# Altium integrated library Capacitor - Aluminium TH.IntLib: 4591 symbols (part 5 of 68)
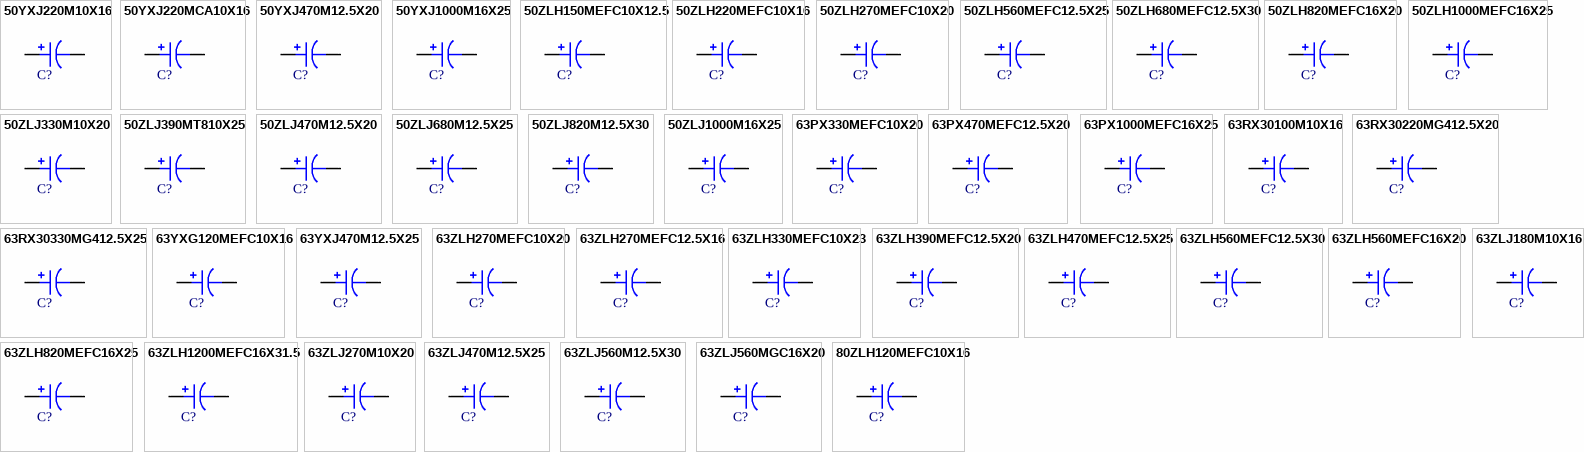
[diagram p118: symbols 50YXJ220M10X16 to 80ZLH120MEFC10X16]

## 63ZLH560MEFC16X20
designator C?, comment 560uF  (value not drawn)
CAP ALUM 560UF 20% 63V RADIAL; Part Number: 63ZLH560MEFC16X20; Manufacturer: Rubycon; TemperatureRange: -40C ~ 105C; Type: Polar; Ripple Current: 1.155A @ 120Hz; Impedance: 43 mOhm; Value: 560uF; PartId: 26466; Supplier 1: Digi-Key; Supplier Part Number 1: 1189-3035-ND; ComponentLink1Description: Datasheet; ComponentLink1URL: http://www.rubycon.co.jp/en/catalog/e_pdfs/aluminum/e_zlh.pdf; ComponentLink2Description: Digi-Key Listing; ComponentLink2URL: https://www.digikey.com/product-detail/en/rubycon/63ZLH560MEFC16X20/1189-3035-ND/3564404; Tolerance: 20%; Voltage: 63V; Price: 1.55; Device Package: Radial, Can, 16mm
footprint CAP AL TH D16 L7.5 H22
pins: 1, 2

## 63ZLH820MEFC16X25
designator C?, comment 820uF  (value not drawn)
CAP ALUM 820UF 20% 63V RADIAL; Part Number: 63ZLH820MEFC16X25; Manufacturer: Rubycon; TemperatureRange: -40C ~ 105C; Type: Polar; Ripple Current: 1.638A @ 120Hz; Impedance: 32 mOhm; Value: 820uF; PartId: 26932; Supplier 1: Digi-Key; Supplier Part Number 1: 1189-3037-ND; ComponentLink1Description: Datasheet; ComponentLink1URL: http://www.rubycon.co.jp/en/catalog/e_pdfs/aluminum/e_zlh.pdf; ComponentLink2Description: Digi-Key Listing; ComponentLink2URL: https://www.digikey.com/product-detail/en/rubycon/63ZLH820MEFC16X25/1189-3037-ND/3564487; Tolerance: 20%; Voltage: 63V; Price: 1.82; Device Package: Radial, Can, 16mm
footprint CAP AL TH D16 L7.5 H27
pins: 1, 2

## 63ZLH1200MEFC16X31.5
designator C?, comment 1200uF  (value not drawn)
CAP ALUM 1200UF 20% 63V RADIAL; Part Number: 63ZLH1200MEFC16X31.5; Manufacturer: Rubycon; TemperatureRange: -40C ~ 105C; Type: Polar; Ripple Current: 1.794A; Impedance: 24 mOhm; Value: 1200uF; PartId: 27170; Supplier 1: Digi-Key; Supplier Part Number 1: 1189-1503-ND; ComponentLink1Description: Datasheet; ComponentLink1URL: http://www.rubycon.co.jp/en/catalog/e_pdfs/aluminum/e_zlh.pdf; ComponentLink2Description: Digi-Key Listing; ComponentLink2URL: https://www.digikey.com/product-detail/en/rubycon/63ZLH1200MEFC16X31.5/1189-1503-ND/3134459; Tolerance: 20%; Voltage: 63V; Price: 1.9; Device Package: Radial, Can, 16mm
footprint CAP AL TH D16 L7.5 H33.5
pins: 1, 2

## 63ZLJ180M10X16
designator C?, comment 180uF  (value not drawn)
CAP ALUM 180UF 20% 63V RADIAL; Part Number: 63ZLJ180M10X16; Manufacturer: Rubycon; TemperatureRange: -40C ~ 105C; Type: Polar; Ripple Current: 600mA @ 120Hz; Impedance: 76 mOhm; Value: 180uF; PartId: 25415; Supplier 1: Digi-Key; Supplier Part Number 1: 1189-2360-ND; ComponentLink1Description: Datasheet; ComponentLink1URL: http://www.rubycon.co.jp/en/catalog/e_pdfs/aluminum/e_zlj.pdf; ComponentLink2Description: Digi-Key Listing; ComponentLink2URL: https://www.digikey.com/product-detail/en/rubycon/63ZLJ180M10X16/1189-2360-ND/3563728; Tolerance: 20%; Voltage: 63V; Price: 0.9; Device Package: Radial, Can, 10mm
footprint CAP AL TH D10 L5 H17.5
pins: 1, 2

## 63ZLJ270M10X20
designator C?, comment 270uF  (value not drawn)
CAP ALUM 270UF 20% 63V RADIAL; Part Number: 63ZLJ270M10X20; Manufacturer: Rubycon; TemperatureRange: -40C ~ 105C; Type: Polar; Ripple Current: 785mA @ 120Hz; Impedance: 56 mOhm; Value: 270uF; PartId: 25935; Supplier 1: Digi-Key; Supplier Part Number 1: 1189-1510-ND; ComponentLink1Description: Datasheet; ComponentLink1URL: http://www.rubycon.co.jp/en/catalog/e_pdfs/aluminum/e_zlj.pdf; ComponentLink2Description: Digi-Key Listing; ComponentLink2URL: https://www.digikey.com/product-detail/en/rubycon/63ZLJ270M10X20/1189-1510-ND/3134466; Tolerance: 20%; Voltage: 63V; Price: 0.74; Device Package: Radial, Can, 10mm
footprint CAP AL TH D10 L5 H22
pins: 1, 2

## 63ZLJ470M12.5X25
designator C?, comment 470uF  (value not drawn)
CAP ALUM 470UF 20% 63V RADIAL; Part Number: 63ZLJ470M12.5X25; Manufacturer: Rubycon; TemperatureRange: -40C ~ 105C; Type: Polar; Ripple Current: 1.353A @ 120Hz; Impedance: 31 mOhm; Value: 470uF; PartId: 24113; Supplier 1: Digi-Key; Supplier Part Number 1: 1189-2362-ND; ComponentLink1Description: Datasheet; ComponentLink1URL: http://www.rubycon.co.jp/en/catalog/e_pdfs/aluminum/e_zlj.pdf; ComponentLink2Description: Digi-Key Listing; ComponentLink2URL: https://www.digikey.com/product-detail/en/rubycon/63ZLJ470M12.5X25/1189-2362-ND/3564153; Tolerance: 20%; Voltage: 63V; Price: 1.38; Device Package: Radial, Can, 12.5mm
footprint CAP AL TH D12.5 L5 H27
pins: 1, 2

## 63ZLJ560M12.5X30
designator C?, comment 560uF  (value not drawn)
CAP ALUM 560UF 20% 63V RADIAL; Part Number: 63ZLJ560M12.5X30; Manufacturer: Rubycon; TemperatureRange: -40C ~ 105C; Type: Polar; Ripple Current: 1.353A @ 120Hz; Impedance: 28 mOhm; Value: 560uF; PartId: 24375; Supplier 1: Digi-Key; Supplier Part Number 1: 1189-2363-ND; ComponentLink1Description: Datasheet; ComponentLink1URL: http://www.rubycon.co.jp/en/catalog/e_pdfs/aluminum/e_zlj.pdf; ComponentLink2Description: Digi-Key Listing; ComponentLink2URL: https://www.digikey.com/product-detail/en/rubycon/63ZLJ560M12.5X30/1189-2363-ND/3564208; Tolerance: 20%; Voltage: 63V; Price: 1.65; Device Package: Radial, Can, 12.5mm
footprint CAP AL TH D12.5 L5 H35.5
pins: 1, 2

## 63ZLJ560MGC16X20
designator C?, comment 560uF  (value not drawn)
CAP ALUM 560UF 20% 63V RADIAL; Part Number: 63ZLJ560MGC16X20; Manufacturer: Rubycon; TemperatureRange: -40C ~ 105C; Type: Polar; Ripple Current: 1.309A @ 120Hz; Impedance: 32 mOhm; Value: 560uF; PartId: 26382; Supplier 1: Digi-Key; Supplier Part Number 1: 1189-1679-3-ND; ComponentLink1Description: Datasheet; ComponentLink1URL: http://www.rubycon.co.jp/en/catalog/e_pdfs/aluminum/e_zlj.pdf; ComponentLink2Description: Digi-Key Listing; ComponentLink2URL: https://www.digikey.com/product-detail/en/rubycon/63ZLJ560MGC16X20/1189-1679-3-ND/3134958; Tolerance: 20%; Voltage: 63V; Price: 0.771; Device Package: Radial, Can, 16mm
footprint CAP AL TH D16 L7.5 H22
pins: 1, 2

## 80ZLH120MEFC10X16
designator C?, comment 120uF  (value not drawn)
CAP ALUM 120UF 20% 80V RADIAL; Part Number: 80ZLH120MEFC10X16; Manufacturer: Rubycon; TemperatureRange: -40C ~ 105C; Type: Polar; Ripple Current: 390mA @ 120Hz; Impedance: 170 mOhm; Value: 120uF; PartId: 25325; Supplier 1: Digi-Key; Supplier Part Number 1: 1189-3043-ND; ComponentLink1Description: Datasheet; ComponentLink1URL: http://www.rubycon.co.jp/en/catalog/e_pdfs/aluminum/e_zlh.pdf; ComponentLink2Description: Digi-Key Listing; ComponentLink2URL: https://www.digikey.com/product-detail/en/rubycon/80ZLH120MEFC10X16/1189-3043-ND/3563726; Tolerance: 20%; Voltage: 80V; Price: 0.66; Device Package: Radial, Can, 10mm
footprint CAP AL TH D10 L5 H17.5
pins: 1, 2

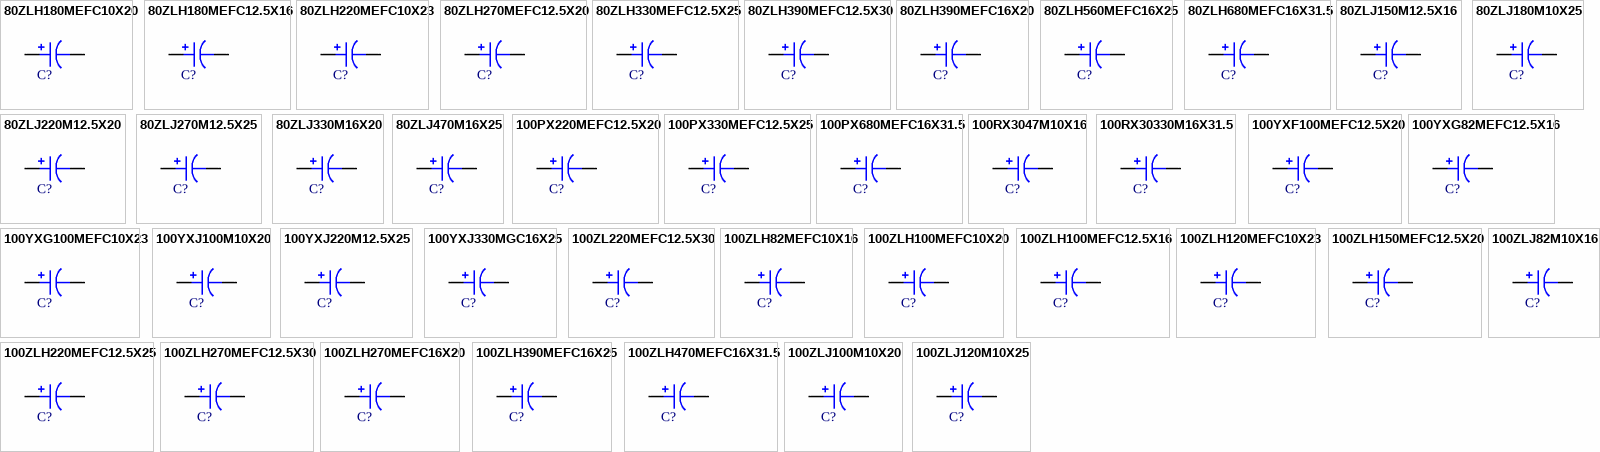
[diagram p7: symbols 80ZLH180MEFC10X20 to 100ZLJ120M10X25]

## 80ZLH180MEFC10X20
designator C?, comment 180uF  (value not drawn)
CAP ALUM 180UF 20% 80V RADIAL; Part Number: 80ZLH180MEFC10X20; Manufacturer: Rubycon; TemperatureRange: -40C ~ 105C; Type: Polar; Ripple Current: 520mA @ 120Hz; Impedance: 120 mOhm; Value: 180uF; PartId: 25959; Supplier 1: Digi-Key; Supplier Part Number 1: 1189-3046-ND; ComponentLink1Description: Datasheet; ComponentLink1URL: http://www.rubycon.co.jp/en/catalog/e_pdfs/aluminum/e_zlh.pdf; ComponentLink2Description: Digi-Key Listing; ComponentLink2URL: https://www.digikey.com/product-detail/en/rubycon/80ZLH180MEFC10X20/1189-3046-ND/3563821; Tolerance: 20%; Voltage: 80V; Price: 0.81; Device Package: Radial, Can, 10mm
footprint CAP AL TH D10 L5 H22
pins: 1, 2

## 80ZLH180MEFC12.5X16
designator C?, comment 180uF  (value not drawn)
CAP ALUM 180UF 20% 80V RADIAL; Part Number: 80ZLH180MEFC12.5X16; Manufacturer: Rubycon; TemperatureRange: -40C ~ 105C; Type: Polar; Ripple Current: 487.5mA @ 120Hz; Impedance: 130 mOhm; Value: 180uF; PartId: 22818; Supplier 1: Digi-Key; Supplier Part Number 1: 1189-3047-ND; ComponentLink1Description: Datasheet; ComponentLink1URL: http://www.rubycon.co.jp/en/catalog/e_pdfs/aluminum/e_zlh.pdf; ComponentLink2Description: Digi-Key Listing; ComponentLink2URL: https://www.digikey.com/product-detail/en/rubycon/80ZLH180MEFC12.5X16/1189-3047-ND/3563975; Tolerance: 20%; Voltage: 80V; Price: 0; Device Package: Radial, Can, 12.5mm
footprint CAP AL TH D12.5 L5 H17.5
pins: 1, 2

## 80ZLH220MEFC10X23
designator C?, comment 220uF  (value not drawn)
CAP ALUM 220UF 20% 80V RADIAL; Part Number: 80ZLH220MEFC10X23; Manufacturer: Rubycon; TemperatureRange: -40C ~ 105C; Type: Polar; Ripple Current: 585mA @ 120Hz; Impedance: 110 mOhm; Value: 220uF; PartId: 26157; Supplier 1: Digi-Key; Supplier Part Number 1: 1189-3048-ND; ComponentLink1Description: Datasheet; ComponentLink1URL: http://www.rubycon.co.jp/en/catalog/e_pdfs/aluminum/e_zlh.pdf; ComponentLink2Description: Digi-Key Listing; ComponentLink2URL: https://www.digikey.com/product-detail/en/rubycon/80ZLH220MEFC10X23/1189-3048-ND/3563865; Tolerance: 20%; Voltage: 80V; Price: 0.86; Device Package: Radial, Can, 10mm
footprint CAP AL TH D10 L5 H30
pins: 1, 2

## 80ZLH270MEFC12.5X20
designator C?, comment 270uF  (value not drawn)
CAP ALUM 270UF 20% 80V RADIAL; Part Number: 80ZLH270MEFC12.5X20; Manufacturer: Rubycon; TemperatureRange: -40C ~ 105C; Type: Polar; Ripple Current: 715mA @ 120Hz; Impedance: 85 mOhm; Value: 270uF; PartId: 23435; Supplier 1: Digi-Key; Supplier Part Number 1: 1189-3049-ND; ComponentLink1Description: Datasheet; ComponentLink1URL: http://www.rubycon.co.jp/en/catalog/e_pdfs/aluminum/e_zlh.pdf; ComponentLink2Description: Digi-Key Listing; ComponentLink2URL: https://www.digikey.com/product-detail/en/rubycon/80ZLH270MEFC12.5X20/1189-3049-ND/3564063; Tolerance: 20%; Voltage: 80V; Price: 1.01; Device Package: Radial, Can, 12.5mm
footprint CAP AL TH D12.5 L5 H22
pins: 1, 2

## 80ZLH330MEFC12.5X25
designator C?, comment 330uF  (value not drawn)
CAP ALUM 330UF 20% 80V RADIAL; Part Number: 80ZLH330MEFC12.5X25; Manufacturer: Rubycon; TemperatureRange: -40C ~ 105C; Type: Polar; Ripple Current: 891mA @ 120Hz; Impedance: 60 mOhm; Value: 330uF; PartId: 24065; Supplier 1: Digi-Key; Supplier Part Number 1: 1189-3050-ND; ComponentLink1Description: Datasheet; ComponentLink1URL: http://www.rubycon.co.jp/en/catalog/e_pdfs/aluminum/e_zlh.pdf; ComponentLink2Description: Digi-Key Listing; ComponentLink2URL: https://www.digikey.com/product-detail/en/rubycon/80ZLH330MEFC12.5X25/1189-3050-ND/3564148; Tolerance: 20%; Voltage: 80V; Price: 1.19; Device Package: Radial, Can, 12.5mm
footprint CAP AL TH D12.5 L5 H27
pins: 1, 2

## 80ZLH390MEFC12.5X30
designator C?, comment 390uF  (value not drawn)
CAP ALUM 390UF 20% 80V RADIAL; Part Number: 80ZLH390MEFC12.5X30; Manufacturer: Rubycon; TemperatureRange: -40C ~ 105C; Type: Polar; Ripple Current: 1.0725A @ 120Hz; Impedance: 51 mOhm; Value: 390uF; PartId: 24354; Supplier 1: Digi-Key; Supplier Part Number 1: 1189-3052-ND; ComponentLink1Description: Datasheet; ComponentLink1URL: http://www.rubycon.co.jp/en/catalog/e_pdfs/aluminum/e_zlh.pdf; ComponentLink2Description: Digi-Key Listing; ComponentLink2URL: https://www.digikey.com/product-detail/en/rubycon/80ZLH390MEFC12.5X30/1189-3052-ND/3564203; Tolerance: 20%; Voltage: 80V; Price: 1.43; Device Package: Radial, Can, 12.5mm
footprint CAP AL TH D12.5 L5 H35.5
pins: 1, 2

## 80ZLH390MEFC16X20
designator C?, comment 390uF  (value not drawn)
CAP ALUM 390UF 20% 80V RADIAL; Part Number: 80ZLH390MEFC16X20; Manufacturer: Rubycon; TemperatureRange: -40C ~ 105C; Type: Polar; Ripple Current: 962.5mA @ 120Hz; Impedance: 58 mOhm; Value: 390uF; PartId: 26465; Supplier 1: Digi-Key; Supplier Part Number 1: 1189-3053-ND; ComponentLink1Description: Datasheet; ComponentLink1URL: http://www.rubycon.co.jp/en/catalog/e_pdfs/aluminum/e_zlh.pdf; ComponentLink2Description: Digi-Key Listing; ComponentLink2URL: https://www.digikey.com/product-detail/en/rubycon/80ZLH390MEFC16X20/1189-3053-ND/3564406; Tolerance: 20%; Voltage: 80V; Price: 1.55; Device Package: Radial, Can, 16mm
footprint CAP AL TH D16 L7.5 H22
pins: 1, 2

## 80ZLH560MEFC16X25
designator C?, comment 560uF  (value not drawn)
CAP ALUM 560UF 20% 80V RADIAL; Part Number: 80ZLH560MEFC16X25; Manufacturer: Rubycon; TemperatureRange: -40C ~ 105C; Type: Polar; Ripple Current: 1.2155A @ 120Hz; Impedance: 44 mOhm; Value: 560uF; PartId: 26933; Supplier 1: Digi-Key; Supplier Part Number 1: 1189-3056-ND; ComponentLink1Description: Datasheet; ComponentLink1URL: http://www.rubycon.co.jp/en/catalog/e_pdfs/aluminum/e_zlh.pdf; ComponentLink2Description: Digi-Key Listing; ComponentLink2URL: https://www.digikey.com/product-detail/en/rubycon/80ZLH560MEFC16X25/1189-3056-ND/3564490; Tolerance: 20%; Voltage: 80V; Price: 1.82; Device Package: Radial, Can, 16mm
footprint CAP AL TH D16 L7.5 H27
pins: 1, 2

## 80ZLH680MEFC16X31.5
designator C?, comment 680uF  (value not drawn)
CAP ALUM 680UF 20% 80V RADIAL; Part Number: 80ZLH680MEFC16X31.5; Manufacturer: Rubycon; TemperatureRange: -40C ~ 105C; Type: Polar; Ripple Current: 1.32A @ 120Hz; Impedance: 33 mOhm; Value: 680uF; PartId: 27208; Supplier 1: Digi-Key; Supplier Part Number 1: 1189-3059-ND; ComponentLink1Description: Datasheet; ComponentLink1URL: http://www.rubycon.co.jp/en/catalog/e_pdfs/aluminum/e_zlh.pdf; ComponentLink2Description: Digi-Key Listing; ComponentLink2URL: https://www.digikey.com/product-detail/en/rubycon/80ZLH680MEFC16X31.5/1189-3059-ND/3564547; Tolerance: 20%; Voltage: 80V; Price: 2.16; Device Package: Radial, Can, 16mm
footprint CAP AL TH D16 L7.5 H33.5
pins: 1, 2

## 80ZLJ150M12.5X16
designator C?, comment 150uF  (value not drawn)
CAP ALUM 150UF 20% 80V RADIAL; Part Number: 80ZLJ150M12.5X16; Manufacturer: Rubycon; TemperatureRange: -40C ~ 105C; Type: Polar; Ripple Current: 715mA @ 120Hz; Impedance: 110 mOhm; Value: 150uF; PartId: 22830; Supplier 1: Digi-Key; Supplier Part Number 1: 1189-2365-ND; ComponentLink1Description: Datasheet; ComponentLink1URL: http://www.rubycon.co.jp/en/catalog/e_pdfs/aluminum/e_zlj.pdf; ComponentLink2Description: Digi-Key Listing; ComponentLink2URL: https://www.digikey.com/product-detail/en/rubycon/80ZLJ150M12.5X16/1189-2365-ND/3563978; Tolerance: 20%; Voltage: 80V; Price: 0; Device Package: Radial, Can, 12.5mm
footprint CAP AL TH D12.5 L5 H17.5
pins: 1, 2

## 80ZLJ180M10X25
designator C?, comment 180uF  (value not drawn)
CAP ALUM 180UF 20% 80V RADIAL; Part Number: 80ZLJ180M10X25; Manufacturer: Rubycon; TemperatureRange: -40C ~ 105C; Type: Polar; Ripple Current: 810mA @ 120Hz; Impedance: 69 mOhm; Value: 180uF; PartId: 26186; Supplier 1: Digi-Key; Supplier Part Number 1: 1189-2366-ND; ComponentLink1Description: Datasheet; ComponentLink1URL: http://www.rubycon.co.jp/en/catalog/e_pdfs/aluminum/e_zlj.pdf; ComponentLink2Description: Digi-Key Listing; ComponentLink2URL: https://www.digikey.com/product-detail/en/rubycon/80ZLJ180M10X25/1189-2366-ND/3563878; Tolerance: 20%; Voltage: 80V; Price: 1.02; Device Package: Radial, Can, 10mm
footprint CAP AL TH D10 L5 H30
pins: 1, 2

## 80ZLJ220M12.5X20
designator C?, comment 220uF  (value not drawn)
CAP ALUM 220UF 20% 80V RADIAL; Part Number: 80ZLJ220M12.5X20; Manufacturer: Rubycon; TemperatureRange: -40C ~ 105C; Type: Polar; Ripple Current: 875mA @ 120Hz; Impedance: 62 mOhm; Value: 220uF; PartId: 23487; Supplier 1: Digi-Key; Supplier Part Number 1: 1189-2367-ND; ComponentLink1Description: Datasheet; ComponentLink1URL: http://www.rubycon.co.jp/en/catalog/e_pdfs/aluminum/e_zlj.pdf; ComponentLink2Description: Digi-Key Listing; ComponentLink2URL: https://www.digikey.com/product-detail/en/rubycon/80ZLJ220M12.5X20/1189-2367-ND/3564071; Tolerance: 20%; Voltage: 80V; Price: 1.17; Device Package: Radial, Can, 12.5mm
footprint CAP AL TH D12.5 L5 H22
pins: 1, 2

## 80ZLJ270M12.5X25
designator C?, comment 270uF  (value not drawn)
CAP ALUM 270UF 20% 80V RADIAL; Part Number: 80ZLJ270M12.5X25; Manufacturer: Rubycon; TemperatureRange: -40C ~ 105C; Type: Polar; Ripple Current: 1.105A @ 120Hz; Impedance: 47 mOhm; Value: 270uF; PartId: 24114; Supplier 1: Digi-Key; Supplier Part Number 1: 1189-2368-ND; ComponentLink1Description: Datasheet; ComponentLink1URL: http://www.rubycon.co.jp/en/catalog/e_pdfs/aluminum/e_zlj.pdf; ComponentLink2Description: Digi-Key Listing; ComponentLink2URL: https://www.digikey.com/product-detail/en/rubycon/80ZLJ270M12.5X25/1189-2368-ND/3564155; Tolerance: 20%; Voltage: 80V; Price: 1.39; Device Package: Radial, Can, 12.5mm
footprint CAP AL TH D12.5 L5 H27
pins: 1, 2

## 80ZLJ330M16X20
designator C?, comment 330uF  (value not drawn)
CAP ALUM 330UF 20% 80V RADIAL; Part Number: 80ZLJ330M16X20; Manufacturer: Rubycon; TemperatureRange: -40C ~ 105C; Type: Polar; Ripple Current: 1.072A @ 120Hz; Impedance: 48 mOhm; Value: 330uF; PartId: 26479; Supplier 1: Digi-Key; Supplier Part Number 1: 1189-2370-ND; ComponentLink1Description: Datasheet; ComponentLink1URL: http://www.rubycon.co.jp/en/catalog/e_pdfs/aluminum/e_zlj.pdf; ComponentLink2Description: Digi-Key Listing; ComponentLink2URL: https://www.digikey.com/product-detail/en/rubycon/80ZLJ330M16X20/1189-2370-ND/3564415; Tolerance: 20%; Voltage: 80V; Price: 1.79; Device Package: Radial, Can, 16mm
footprint CAP AL TH D16 L7.5 H22
pins: 1, 2

## 80ZLJ470M16X25
designator C?, comment 470uF  (value not drawn)
CAP ALUM 470UF 20% 80V RADIAL; Part Number: 80ZLJ470M16X25; Manufacturer: Rubycon; TemperatureRange: -40C ~ 105C; Type: Polar; Ripple Current: 1.336A @ 120Hz; Impedance: 38 mOhm; Value: 470uF; PartId: 26942; Supplier 1: Digi-Key; Supplier Part Number 1: 1189-2371-ND; ComponentLink1Description: Datasheet; ComponentLink1URL: http://www.rubycon.co.jp/en/catalog/e_pdfs/aluminum/e_zlj.pdf; ComponentLink2Description: Digi-Key Listing; ComponentLink2URL: https://www.digikey.com/product-detail/en/rubycon/80ZLJ470M16X25/1189-2371-ND/3564497; Tolerance: 20%; Voltage: 80V; Price: 1.89; Device Package: Radial, Can, 16mm
footprint CAP AL TH D16 L7.5 H27
pins: 1, 2

## 100PX220MEFC12.5X20
designator C?, comment 220uF  (value not drawn)
CAP ALUM 220UF 20% 100V RADIAL; Part Number: 100PX220MEFC12.5X20; Manufacturer: Rubycon; TemperatureRange: -55C ~ 105C; Type: Polar; Ripple Current: 560mA @ 120Hz; Value: 220uF; PartId: 23021; Supplier 1: Digi-Key; Supplier Part Number 1: 1189-3684-ND; ComponentLink1Description: Datasheet; ComponentLink1URL: http://www.rubycon.co.jp/en/catalog/e_pdfs/aluminum/e_px.pdf; ComponentLink2Description: Digi-Key Listing; ComponentLink2URL: https://www.digikey.com/product-detail/en/rubycon/100PX220MEFC12.5X20/1189-3684-ND/3564013; Tolerance: 20%; Voltage: 100V; Price: 0; Device Package: Radial, Can, 12.5mm
footprint CAP AL TH D12.5 L5 H21.5
pins: 1, 2

## 100PX330MEFC12.5X25
designator C?, comment 330uF  (value not drawn)
CAP ALUM 330UF 20% 100V RADIAL; Part Number: 100PX330MEFC12.5X25; Manufacturer: Rubycon; TemperatureRange: -55C ~ 105C; Type: Polar; Ripple Current: 690mA; Value: 330uF; PartId: 23726; Supplier 1: Digi-Key; Supplier Part Number 1: 1189-1003-ND; ComponentLink1Description: Datasheet; ComponentLink1URL: http://www.rubycon.co.jp/en/catalog/e_pdfs/aluminum/e_px.pdf; ComponentLink2Description: Digi-Key Listing; ComponentLink2URL: https://www.digikey.com/product-detail/en/rubycon/100PX330MEFC12.5X25/1189-1003-ND/3133931; Tolerance: 20%; Voltage: 100V; Price: 1.34; Device Package: Radial, Can, 12.5mm
footprint CAP AL TH D12.5 L5 H26.5
pins: 1, 2

## 100PX680MEFC16X31.5
designator C?, comment 680uF  (value not drawn)
CAP ALUM 680UF 20% 100V RADIAL; Part Number: 100PX680MEFC16X31.5; Manufacturer: Rubycon; TemperatureRange: -55C ~ 105C; Type: Polar; Ripple Current: 900mA; Value: 680uF; PartId: 27237; Supplier 1: Digi-Key; Supplier Part Number 1: 1189-1006-ND; ComponentLink1Description: Datasheet; ComponentLink1URL: http://www.rubycon.co.jp/en/catalog/e_pdfs/aluminum/e_px.pdf; ComponentLink2Description: Digi-Key Listing; ComponentLink2URL: https://www.digikey.com/product-detail/en/rubycon/100PX680MEFC16X31.5/1189-1006-ND/3133934; Tolerance: 20%; Voltage: 100V; Price: 2.5; Device Package: Radial, Can, 16mm
footprint CAP AL TH D16 L7.5 H33.5
pins: 1, 2

## 100RX3047M10X16
designator C?, comment 47uF  (value not drawn)
CAP ALUM 47UF 20% 100V RADIAL; Part Number: 100RX3047M10X16; Manufacturer: Rubycon; TemperatureRange: -40C ~ 130C; Type: Polar; Ripple Current: 330mA; Impedance: 330 mOhm; Value: 47uF; PartId: 25632; Supplier 1: Digi-Key; Supplier Part Number 1: 1189-1009-ND; ComponentLink1Description: Datasheet; ComponentLink1URL: http://www.rubycon.co.jp/en/catalog/e_pdfs/aluminum/e_rx30.pdf; ComponentLink2Description: Digi-Key Listing; ComponentLink2URL: https://www.digikey.com/product-detail/en/rubycon/100RX3047M10X16/1189-1009-ND/3133937; Tolerance: 20%; Voltage: 100V; Price: 0.72; Device Package: Radial, Can, 10mm
footprint CAP AL TH D10 L5 H22
pins: 1, 2

## 100RX30330M16X31.5
designator C?, comment 330uF  (value not drawn)
CAP ALUM 330UF 20% 100V RADIAL; Part Number: 100RX30330M16X31.5; Manufacturer: Rubycon; TemperatureRange: -40C ~ 130C; Type: Polar; Ripple Current: 1.3A; Impedance: 100 mOhm; Value: 330uF; PartId: 27251; Supplier 1: Digi-Key; Supplier Part Number 1: 1189-1008-ND; ComponentLink1Description: Datasheet; ComponentLink1URL: http://www.rubycon.co.jp/en/catalog/e_pdfs/aluminum/e_rx30.pdf; ComponentLink2Description: Digi-Key Listing; ComponentLink2URL: https://www.digikey.com/product-detail/en/rubycon/100RX30330M16X31.5/1189-1008-ND/3133936; Tolerance: 20%; Voltage: 100V; Price: 2.67; Device Package: Radial, Can, 16mm
footprint CAP AL TH D16 L7.5 H33.5
pins: 1, 2

## 100YXF100MEFC12.5X20
designator C?, comment 100uF  (value not drawn)
CAP ALUM 100UF 20% 100V RADIAL; Part Number: 100YXF100MEFC12.5X20; Manufacturer: Rubycon; TemperatureRange: -40C ~ 105C; Type: Polar; Ripple Current: 301mA @ 120Hz; Impedance: 160 mOhm; Value: 100uF; PartId: 22977; Supplier 1: Digi-Key; Supplier Part Number 1: 1189-3674-ND; ComponentLink1Description: Datasheet; ComponentLink1URL: http://www.rubycon.co.jp/en/catalog/e_pdfs/aluminum/e_yxf.pdf; ComponentLink2Description: Digi-Key Listing; ComponentLink2URL: https://www.digikey.com/product-detail/en/rubycon/100YXF100MEFC12.5X20/1189-3674-ND/3564027; Tolerance: 20%; Voltage: 100V; Price: 0; Device Package: Radial, Can, 12.5mm
footprint CAP AL TH D12.5 L5 H21.5
pins: 1, 2

## 100YXG82MEFC12.5X16
designator C?, comment 82uF  (value not drawn)
CAP ALUM 82UF 20% 100V RADIAL; Part Number: 100YXG82MEFC12.5X16; Manufacturer: Rubycon; TemperatureRange: -40C ~ 105C; Type: Polar; Ripple Current: 233mA @ 120Hz; Impedance: 230 mOhm; Value: 82uF; PartId: 22876; Supplier 1: Digi-Key; Supplier Part Number 1: 1189-1027-ND; ComponentLink1Description: Datasheet; ComponentLink1URL: http://www.rubycon.co.jp/en/catalog/e_pdfs/aluminum/e_yxg.pdf; ComponentLink2Description: Digi-Key Listing; ComponentLink2URL: https://www.digikey.com/product-detail/en/rubycon/100YXG82MEFC12.5X16/1189-1027-ND/3133955; Tolerance: 20%; Voltage: 100V; Price: 0; Device Package: Radial, Can, 12.5mm
footprint CAP AL TH D12.5 L5 H20
pins: 1, 2

## 100YXG100MEFC10X23
designator C?, comment 100uF  (value not drawn)
CAP ALUM 100UF 20% 100V RADIAL; Part Number: 100YXG100MEFC10X23; Manufacturer: Rubycon; TemperatureRange: -40C ~ 105C; Type: Polar; Ripple Current: 265.5mA @ 120Hz; Impedance: 200 mOhm; Value: 100uF; PartId: 26134; Supplier 1: Digi-Key; Supplier Part Number 1: 1189-1020-ND; ComponentLink1Description: Datasheet; ComponentLink1URL: http://www.rubycon.co.jp/en/catalog/e_pdfs/aluminum/e_yxg.pdf; ComponentLink2Description: Digi-Key Listing; ComponentLink2URL: https://www.digikey.com/product-detail/en/rubycon/100YXG100MEFC10X23/1189-1020-ND/3133948; Tolerance: 20%; Voltage: 100V; Price: 0.81; Device Package: Radial, Can, 10mm
footprint CAP AL TH D10 L5 H30
pins: 1, 2

## 100YXJ100M10X20
designator C?, comment 100uF  (value not drawn)
CAP ALUM 100UF 20% 100V RADIAL; Part Number: 100YXJ100M10X20; Manufacturer: Rubycon; TemperatureRange: -40C ~ 105C; Type: Polar; Ripple Current: 1.04A; Impedance: 120 mOhm; Value: 100uF; PartId: 25945; Supplier 1: Digi-Key; Supplier Part Number 1: 1189-2149-ND; ComponentLink1Description: Datasheet; ComponentLink1URL: http://www.rubycon.co.jp/en/catalog/e_pdfs/aluminum/e_yxj.pdf; ComponentLink2Description: Digi-Key Listing; ComponentLink2URL: https://www.digikey.com/product-detail/en/rubycon/100YXJ100M10X20/1189-2149-ND/3563802; Tolerance: 20%; Voltage: 100V; Price: 0.75; Device Package: Radial, Can, 10mm
footprint CAP AL TH D10 L5 H22
pins: 1, 2

## 100YXJ220M12.5X25
designator C?, comment 220uF  (value not drawn)
CAP ALUM 220UF 20% 100V RADIAL; Part Number: 100YXJ220M12.5X25; Manufacturer: Rubycon; TemperatureRange: -40C ~ 105C; Type: Polar; Ripple Current: 1.62A; Impedance: 60 mOhm; Value: 220uF; PartId: 24097; Supplier 1: Digi-Key; Supplier Part Number 1: 1189-1028-ND; ComponentLink1Description: Datasheet; ComponentLink1URL: http://www.rubycon.co.jp/en/catalog/e_pdfs/aluminum/e_yxj.pdf; ComponentLink2Description: Digi-Key Listing; ComponentLink2URL: https://www.digikey.com/product-detail/en/rubycon/100YXJ220M12.5X25/1189-1028-ND/3133956; Tolerance: 20%; Voltage: 100V; Price: 1.3; Device Package: Radial, Can, 12.5mm
footprint CAP AL TH D12.5 L5 H27
pins: 1, 2

## 100YXJ330MGC16X25
designator C?, comment 330uF  (value not drawn)
CAP ALUM 330UF 20% 100V RADIAL; Part Number: 100YXJ330MGC16X25; Manufacturer: Rubycon; TemperatureRange: -40C ~ 105C; Type: Polar; Ripple Current: 2.21A; Impedance: 44 mOhm; Value: 330uF; PartId: 26889; Supplier 1: Digi-Key; Supplier Part Number 1: 1189-1029-ND; ComponentLink1Description: Datasheet; ComponentLink1URL: http://www.rubycon.co.jp/en/catalog/e_pdfs/aluminum/e_yxj.pdf; ComponentLink2Description: Digi-Key Listing; ComponentLink2URL: https://www.digikey.com/product-detail/en/rubycon/100YXJ330MGC16X25/1189-1029-ND/3133957; Tolerance: 20%; Voltage: 100V; Price: 1.32; Device Package: Radial, Can, 16mm
footprint CAP AL TH D16 L7.5 H27
pins: 1, 2

## 100ZL220MEFC12.5X30
designator C?, comment 220uF  (value not drawn)
CAP ALUM 220UF 20% 100V RADIAL; Part Number: 100ZL220MEFC12.5X30; Manufacturer: Rubycon; TemperatureRange: -40C ~ 105C; Type: Polar; Ripple Current: 705mA @ 120Hz; Impedance: 63 mOhm; Value: 220uF; PartId: 24320; Supplier 1: Digi-Key; Supplier Part Number 1: 1189-3676-ND; ComponentLink1Description: Datasheet; ComponentLink1URL: http://www.rubycon.co.jp/en/catalog/e_pdfs/aluminum/e_zl.pdf; ComponentLink2Description: Digi-Key Listing; ComponentLink2URL: https://www.digikey.com/product-detail/en/rubycon/100ZL220MEFC12.5X30/1189-3676-ND/3564195; Tolerance: 20%; Voltage: 100V; Price: 1.26; Device Package: Radial, Can, 12.5mm
footprint CAP AL TH D12.5 L5 H35.5
pins: 1, 2

## 100ZLH82MEFC10X16
designator C?, comment 82uF  (value not drawn)
CAP ALUM 82UF 20% 100V RADIAL; Part Number: 100ZLH82MEFC10X16; Manufacturer: Rubycon; TemperatureRange: -40C ~ 105C; Type: Polar; Ripple Current: 390mA; Impedance: 170 mOhm; Value: 82uF; PartId: 25383; Supplier 1: Digi-Key; Supplier Part Number 1: 1189-2154-ND; ComponentLink1Description: Datasheet; ComponentLink1URL: http://www.rubycon.co.jp/en/catalog/e_pdfs/aluminum/e_zlh.pdf; ComponentLink2Description: Digi-Key Listing; ComponentLink2URL: https://www.digikey.com/product-detail/en/rubycon/100ZLH82MEFC10X16/1189-2154-ND/3563721; Tolerance: 20%; Voltage: 100V; Price: 0.75; Device Package: Radial, Can, 10mm
footprint CAP AL TH D10 L5 H17.5
pins: 1, 2

## 100ZLH100MEFC10X20
designator C?, comment 100uF  (value not drawn)
CAP ALUM 100UF 20% 100V RADIAL; Part Number: 100ZLH100MEFC10X20; Manufacturer: Rubycon; TemperatureRange: -40C ~ 105C; Type: Polar; Ripple Current: 520mA; Impedance: 120 mOhm; Value: 100uF; PartId: 25895; Supplier 1: Digi-Key; Supplier Part Number 1: 1189-1887-ND; ComponentLink1Description: Datasheet; ComponentLink1URL: http://www.rubycon.co.jp/en/catalog/e_pdfs/aluminum/e_zlh.pdf; ComponentLink2Description: Digi-Key Listing; ComponentLink2URL: https://www.digikey.com/product-detail/en/rubycon/100ZLH100MEFC10X20/1189-1887-ND/3563824; Tolerance: 20%; Voltage: 100V; Price: 0.67; Device Package: Radial, Can, 10mm
footprint CAP AL TH D10 L5 H22
pins: 1, 2

## 100ZLH100MEFC12.5X16
designator C?, comment 100uF  (value not drawn)
CAP ALUM 100UF 20% 100V RADIAL; Part Number: 100ZLH100MEFC12.5X16; Manufacturer: Rubycon; TemperatureRange: -40C ~ 105C; Type: Polar; Ripple Current: 487.5mA; Impedance: 130 mOhm; Value: 100uF; PartId: 22821; Supplier 1: Digi-Key; Supplier Part Number 1: 1189-2938-ND; ComponentLink1Description: Datasheet; ComponentLink1URL: http://www.rubycon.co.jp/en/catalog/e_pdfs/aluminum/e_zlh.pdf; ComponentLink2Description: Digi-Key Listing; ComponentLink2URL: https://www.digikey.com/product-detail/en/rubycon/100ZLH100MEFC12.5X16/1189-2938-ND/3563976; Tolerance: 20%; Voltage: 100V; Price: 0; Device Package: Radial, Can, 12.5mm
footprint CAP AL TH D12.5 L5 H17.5
pins: 1, 2

## 100ZLH120MEFC10X23
designator C?, comment 120uF  (value not drawn)
CAP ALUM 120UF 20% 100V RADIAL; Part Number: 100ZLH120MEFC10X23; Manufacturer: Rubycon; TemperatureRange: -40C ~ 105C; Type: Polar; Ripple Current: 585mA; Impedance: 110 mOhm; Value: 120uF; PartId: 26167; Supplier 1: Digi-Key; Supplier Part Number 1: 1189-2939-ND; ComponentLink1Description: Datasheet; ComponentLink1URL: http://www.rubycon.co.jp/en/catalog/e_pdfs/aluminum/e_zlh.pdf; ComponentLink2Description: Digi-Key Listing; ComponentLink2URL: https://www.digikey.com/product-detail/en/rubycon/100ZLH120MEFC10X23/1189-2939-ND/3563868; Tolerance: 20%; Voltage: 100V; Price: 0.88; Device Package: Radial, Can, 10mm
footprint CAP AL TH D10 L5 H30
pins: 1, 2

## 100ZLH150MEFC12.5X20
designator C?, comment 150uF  (value not drawn)
CAP ALUM 150UF 20% 100V RADIAL; Part Number: 100ZLH150MEFC12.5X20; Manufacturer: Rubycon; TemperatureRange: -40C ~ 105C; Type: Polar; Ripple Current: 715mA; Impedance: 85 mOhm; Value: 150uF; PartId: 23411; Supplier 1: Digi-Key; Supplier Part Number 1: 1189-2940-ND; ComponentLink1Description: Datasheet; ComponentLink1URL: http://www.rubycon.co.jp/en/catalog/e_pdfs/aluminum/e_zlh.pdf; ComponentLink2Description: Digi-Key Listing; ComponentLink2URL: https://www.digikey.com/product-detail/en/rubycon/100ZLH150MEFC12.5X20/1189-2940-ND/3564065; Tolerance: 20%; Voltage: 100V; Price: 0.99; Device Package: Radial, Can, 12.5mm
footprint CAP AL TH D12.5 L5 H22
pins: 1, 2

## 100ZLH220MEFC12.5X25
designator C?, comment 220uF  (value not drawn)
CAP ALUM 220UF 20% 100V RADIAL; Part Number: 100ZLH220MEFC12.5X25; Manufacturer: Rubycon; TemperatureRange: -40C ~ 105C; Type: Polar; Ripple Current: 810mA; Impedance: 60 mOhm; Value: 220uF; PartId: 24086; Supplier 1: Digi-Key; Supplier Part Number 1: 1189-2942-ND; ComponentLink1Description: Datasheet; ComponentLink1URL: http://www.rubycon.co.jp/en/catalog/e_pdfs/aluminum/e_zlh.pdf; ComponentLink2Description: Digi-Key Listing; ComponentLink2URL: https://www.digikey.com/product-detail/en/rubycon/100ZLH220MEFC12.5X25/1189-2942-ND/3564150; Tolerance: 20%; Voltage: 100V; Price: 1.24; Device Package: Radial, Can, 12.5mm
footprint CAP AL TH D12.5 L5 H27
pins: 1, 2

## 100ZLH270MEFC12.5X30
designator C?, comment 270uF  (value not drawn)
CAP ALUM 270UF 20% 100V RADIAL; Part Number: 100ZLH270MEFC12.5X30; Manufacturer: Rubycon; TemperatureRange: -40C ~ 105C; Type: Polar; Ripple Current: 975mA; Impedance: 51 mOhm; Value: 270uF; PartId: 24360; Supplier 1: Digi-Key; Supplier Part Number 1: 1189-2943-ND; ComponentLink1Description: Datasheet; ComponentLink1URL: http://www.rubycon.co.jp/en/catalog/e_pdfs/aluminum/e_zlh.pdf; ComponentLink2Description: Digi-Key Listing; ComponentLink2URL: https://www.digikey.com/product-detail/en/rubycon/100ZLH270MEFC12.5X30/1189-2943-ND/3564205; Tolerance: 20%; Voltage: 100V; Price: 1.55; Device Package: Radial, Can, 12.5mm
footprint CAP AL TH D12.5 L5 H35.5
pins: 1, 2

## 100ZLH270MEFC16X20
designator C?, comment 270uF  (value not drawn)
CAP ALUM 270UF 20% 100V RADIAL; Part Number: 100ZLH270MEFC16X20; Manufacturer: Rubycon; TemperatureRange: -40C ~ 105C; Type: Polar; Ripple Current: 875mA; Impedance: 58 mOhm; Value: 270uF; PartId: 26471; Supplier 1: Digi-Key; Supplier Part Number 1: 1189-2944-ND; ComponentLink1Description: Datasheet; ComponentLink1URL: http://www.rubycon.co.jp/en/catalog/e_pdfs/aluminum/e_zlh.pdf; ComponentLink2Description: Digi-Key Listing; ComponentLink2URL: https://www.digikey.com/product-detail/en/rubycon/100ZLH270MEFC16X20/1189-2944-ND/3564408; Tolerance: 20%; Voltage: 100V; Price: 1.61; Device Package: Radial, Can, 16mm
footprint CAP AL TH D16 L7.5 H22
pins: 1, 2

## 100ZLH390MEFC16X25
designator C?, comment 390uF  (value not drawn)
CAP ALUM 390UF 20% 100V T/H; Part Number: 100ZLH390MEFC16X25; Manufacturer: Rubycon; TemperatureRange: -40C ~ 105C; Type: Polar; Ripple Current: 1.216A @ 120Hz; Impedance: 44 mOhm; Value: 390uF; PartId: 26918; Supplier 1: Digi-Key; Supplier Part Number 1: 1189-3595-ND; ComponentLink1Description: Datasheet; ComponentLink1URL: http://www.rubycon.co.jp/en/catalog/e_pdfs/aluminum/e_zlh.pdf; ComponentLink2Description: Digi-Key Listing; ComponentLink2URL: https://www.digikey.com/product-detail/en/rubycon/100ZLH390MEFC16X25/1189-3595-ND/6049900; Tolerance: 20%; Voltage: 100V; Price: 1.67; Device Package: Radial, Can, 16mm
footprint CAP AL TH D16 L7.5 H27
pins: 1, 2

## 100ZLH470MEFC16X31.5
designator C?, comment 470uF  (value not drawn)
CAP ALUM 470UF 20% 100V RADIAL; Part Number: 100ZLH470MEFC16X31.5; Manufacturer: Rubycon; TemperatureRange: -40C ~ 105C; Type: Polar; Ripple Current: 1.32A; Impedance: 33 mOhm; Value: 470uF; PartId: 27094; Supplier 1: Digi-Key; Supplier Part Number 1: 1189-1712-ND; ComponentLink1Description: Datasheet; ComponentLink1URL: http://www.rubycon.co.jp/en/catalog/e_pdfs/aluminum/e_zlh.pdf; ComponentLink2Description: Digi-Key Listing; ComponentLink2URL: https://www.digikey.com/product-detail/en/rubycon/100ZLH470MEFC16X31.5/1189-1712-ND/3564548; Tolerance: 20%; Voltage: 100V; Price: 1.72; Device Package: Radial, Can, 16mm
footprint CAP AL TH D16 L7.5 H33.5
pins: 1, 2

## 100ZLJ82M10X16
designator C?, comment 82uF  (value not drawn)
CAP ALUM 82UF 20% 100V RADIAL; Part Number: 100ZLJ82M10X16; Manufacturer: Rubycon; TemperatureRange: -40C ~ 105C; Type: Polar; Ripple Current: 520mA @ 120Hz; Impedance: 110 mOhm; Value: 82uF; PartId: 25547; Supplier 1: Digi-Key; Supplier Part Number 1: 1189-1049-ND; ComponentLink1Description: Datasheet; ComponentLink1URL: http://www.rubycon.co.jp/en/catalog/e_pdfs/aluminum/e_zlj.pdf; ComponentLink2Description: Digi-Key Listing; ComponentLink2URL: https://www.digikey.com/product-detail/en/rubycon/100ZLJ82M10X16/1189-1049-ND/3133978; Tolerance: 20%; Voltage: 100V; Price: 0.63; Device Package: Radial, Can, 10mm
footprint CAP AL TH D10 L5 H22
pins: 1, 2

## 100ZLJ100M10X20
designator C?, comment 100uF  (value not drawn)
CAP ALUM 100UF 20% 100V RADIAL; Part Number: 100ZLJ100M10X20; Manufacturer: Rubycon; TemperatureRange: -40C ~ 105C; Type: Polar; Ripple Current: 715mA @ 120Hz; Impedance: 84 mOhm; Value: 100uF; PartId: 25952; Supplier 1: Digi-Key; Supplier Part Number 1: 1189-1038-ND; ComponentLink1Description: Datasheet; ComponentLink1URL: http://www.rubycon.co.jp/en/catalog/e_pdfs/aluminum/e_zlj.pdf; ComponentLink2Description: Digi-Key Listing; ComponentLink2URL: https://www.digikey.com/product-detail/en/rubycon/100ZLJ100M10X20/1189-1038-ND/3133965; Tolerance: 20%; Voltage: 100V; Price: 0.78; Device Package: Radial, Can, 10mm
footprint CAP AL TH D10 L5 H22
pins: 1, 2

## 100ZLJ120M10X25
designator C?, comment 120uF  (value not drawn)
CAP ALUM 120UF 20% 100V RADIAL; Part Number: 100ZLJ120M10X25; Manufacturer: Rubycon; TemperatureRange: -40C ~ 105C; Type: Polar; Ripple Current: 810mA @ 120Hz; Impedance: 69 mOhm; Value: 120uF; PartId: 26162; Supplier 1: Digi-Key; Supplier Part Number 1: 1189-1039-ND; ComponentLink1Description: Datasheet; ComponentLink1URL: http://www.rubycon.co.jp/en/catalog/e_pdfs/aluminum/e_zlj.pdf; ComponentLink2Description: Digi-Key Listing; ComponentLink2URL: https://www.digikey.com/product-detail/en/rubycon/100ZLJ120M10X25/1189-1039-ND/3133966; Tolerance: 20%; Voltage: 100V; Price: 0.87; Device Package: Radial, Can, 10mm
footprint CAP AL TH D10 L5 H30
pins: 1, 2

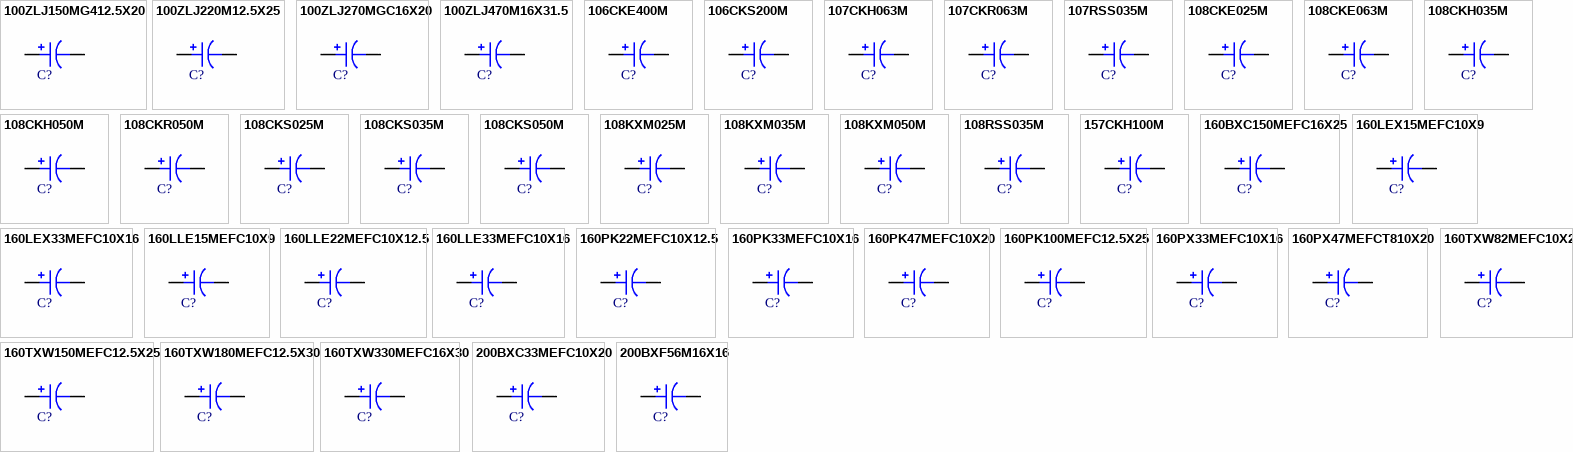
[diagram p8: symbols 100ZLJ150MG412.5X20 to 200BXF56M16X16]

## 100ZLJ150MG412.5X20
designator C?, comment 150uF  (value not drawn)
CAP ALUM 150UF 20% 100V RADIAL; Part Number: 100ZLJ150MG412.5X20; Manufacturer: Rubycon; TemperatureRange: -40C ~ 105C; Type: Polar; Ripple Current: 875mA @ 120Hz; Impedance: 62 mOhm; Value: 150uF; PartId: 23187; Supplier 1: Digi-Key; Supplier Part Number 1: 1189-1514-3-ND; ComponentLink1Description: Datasheet; ComponentLink1URL: http://www.rubycon.co.jp/en/catalog/e_pdfs/aluminum/e_zlj.pdf; ComponentLink2Description: Digi-Key Listing; ComponentLink2URL: https://www.digikey.com/product-detail/en/rubycon/100ZLJ150MG412.5X20/1189-1514-3-ND/3134794; Tolerance: 20%; Voltage: 100V; Price: 0.4362; Device Package: Radial, Can, 12.5mm
footprint CAP AL TH D12.5 L5 H22
pins: 1, 2

## 100ZLJ220M12.5X25
designator C?, comment 220uF  (value not drawn)
CAP ALUM 220UF 20% 100V RADIAL; Part Number: 100ZLJ220M12.5X25; Manufacturer: Rubycon; TemperatureRange: -40C ~ 105C; Type: Polar; Ripple Current: 1.105A @ 120Hz; Impedance: 47 mOhm; Value: 220uF; PartId: 24071; Supplier 1: Digi-Key; Supplier Part Number 1: 1189-1040-ND; ComponentLink1Description: Datasheet; ComponentLink1URL: http://www.rubycon.co.jp/en/catalog/e_pdfs/aluminum/e_zlj.pdf; ComponentLink2Description: Digi-Key Listing; ComponentLink2URL: https://www.digikey.com/product-detail/en/rubycon/100ZLJ220M12.5X25/1189-1040-ND/3133967; Tolerance: 20%; Voltage: 100V; Price: 1.21; Device Package: Radial, Can, 12.5mm
footprint CAP AL TH D12.5 L5 H27
pins: 1, 2

## 100ZLJ270MGC16X20
designator C?, comment 270uF  (value not drawn)
CAP ALUM 270UF 20% 100V RADIAL; Part Number: 100ZLJ270MGC16X20; Manufacturer: Rubycon; TemperatureRange: -40C ~ 105C; Type: Polar; Ripple Current: 975mA @ 120Hz; Impedance: 48 mOhm; Value: 270uF; PartId: 26385; Supplier 1: Digi-Key; Supplier Part Number 1: 1189-1515-3-ND; ComponentLink1Description: Datasheet; ComponentLink1URL: http://www.rubycon.co.jp/en/catalog/e_pdfs/aluminum/e_zlj.pdf; ComponentLink2Description: Digi-Key Listing; ComponentLink2URL: https://www.digikey.com/product-detail/en/rubycon/100ZLJ270MGC16X20/1189-1515-3-ND/3134795; Tolerance: 20%; Voltage: 100V; Price: 0.8066; Device Package: Radial, Can, 16mm
footprint CAP AL TH D16 L7.5 H22
pins: 1, 2

## 100ZLJ470M16X31.5
designator C?, comment 470uF  (value not drawn)
CAP ALUM 470UF 20% 100V RADIAL; Part Number: 100ZLJ470M16X31.5; Manufacturer: Rubycon; TemperatureRange: -40C ~ 105C; Type: Polar; Ripple Current: 1.452A @ 120Hz; Impedance: 32 mOhm; Value: 470uF; PartId: 27207; Supplier 1: Digi-Key; Supplier Part Number 1: 1189-1045-ND; ComponentLink1Description: Datasheet; ComponentLink1URL: http://www.rubycon.co.jp/en/catalog/e_pdfs/aluminum/e_zlj.pdf; ComponentLink2Description: Digi-Key Listing; ComponentLink2URL: https://www.digikey.com/product-detail/en/rubycon/100ZLJ470M16X31.5/1189-1045-ND/3133973; Tolerance: 20%; Voltage: 100V; Price: 2.15; Device Package: Radial, Can, 16mm
footprint CAP AL TH D16 L7.5 H33.5
pins: 1, 2

## 106CKE400M
designator C?, comment 10uF  (value not drawn)
CAP ALUM 10UF 20% 400V RADIAL; Part Number: 106CKE400M; Manufacturer: Illinois Capacitor; TemperatureRange: -25C ~ 105C; Type: Polar; Ripple Current: 64mA @ 120Hz; Value: 10uF; PartId: 25675; Supplier 1: Digi-Key; Supplier Part Number 1: 1572-1283-ND; ComponentLink1Description: Datasheet; ComponentLink1URL: http://www.illinoiscapacitor.com/pdf/seriesDocuments/CKH_CKE%20series.pdf; ComponentLink2Description: Digi-Key Listing; ComponentLink2URL: https://www.digikey.com/product-detail/en/illinois-capacitor/106CKE400M/1572-1283-ND/5410625; Tolerance: 20%; Voltage: 400V; Price: 0.78; Device Package: Radial, Can, 10mm
footprint CAP AL TH D10 L5 H22
pins: 1, 2

## 106CKS200M
designator C?, comment 10uF  (value not drawn)
CAP ALUM 10UF 20% 200V THRU HOLE; Part Number: 106CKS200M; Manufacturer: Illinois Capacitor; TemperatureRange: -25C ~ 85C; Type: Polar; Ripple Current: 100mA @ 120Hz; Value: 10uF; PartId: 24698; Supplier 1: Digi-Key; Supplier Part Number 1: 1572-1286-ND; ComponentLink1Description: Datasheet; ComponentLink1URL: http://www.illinoiscapacitor.com/pdf/seriesDocuments/CKR_CKS%20series.pdf; ComponentLink2Description: Digi-Key Listing; ComponentLink2URL: https://www.digikey.com/product-detail/en/illinois-capacitor/106CKS200M/1572-1286-ND/5410634; Tolerance: 20%; Voltage: 200V; Price: 0.37; Device Package: Radial, Can, 10mm
footprint CAP AL TH D10 L5 H14.5
pins: 1, 2

## 107CKH063M
designator C?, comment 100uF  (value not drawn)
RADIAL 105C LYTIC; Part Number: 107CKH063M; Manufacturer: Illinois Capacitor; TemperatureRange: -40C ~ 105C; Tolerance: 20%; Voltage: 63V; Type: Polar; Ripple Current: 260mA; Value: 100uF; PartId: 24803; Supplier 1: Digi-Key; Supplier Part Number 1: 1572-1043-ND; ComponentLink1Description: Datasheet; ComponentLink1URL: http://www.illinoiscapacitor.com/pdf/seriesDocuments/CKH_CKE%20series.pdf; ComponentLink2Description: Digi-Key Listing; ComponentLink2URL: https://www.digikey.com/product-detail/en/illinois-capacitor/107CKH063M/1572-1043-ND/5343973; Price: 0.45; Device Package: Radial, Can, 10mm
footprint CAP AL TH D10 L5 H14.5
pins: 1, 2

## 107CKR063M
designator C?, comment 100uF  (value not drawn)
RADIAL 85C LYTIC; Part Number: 107CKR063M; Manufacturer: Illinois Capacitor; TemperatureRange: -40C ~ 85C; Tolerance: 20%; Voltage: 63V; Type: Polar; Ripple Current: 330mA; Value: 100uF; PartId: 24854; Supplier 1: Digi-Key; Supplier Part Number 1: 1572-1045-ND; ComponentLink1Description: Datasheet; ComponentLink1URL: http://www.illinoiscapacitor.com/pdf/seriesDocuments/CKR_CKS%20series.pdf; ComponentLink2Description: Digi-Key Listing; ComponentLink2URL: https://www.digikey.com/product-detail/en/illinois-capacitor/107CKR063M/1572-1045-ND/5343975; Price: 0.47; Device Package: Radial, Can, 10mm
footprint CAP AL TH D10 L5 H14.5
pins: 1, 2

## 107RSS035M
designator C?, comment 100uF  (value not drawn)
CAP ALUM 100UF 20% 35V THRU HOLE; Part Number: 107RSS035M; Manufacturer: Illinois Capacitor; TemperatureRange: -40C ~ 85C; Type: Polar; Ripple Current: 160mA @ 120Hz; Value: 100uF; PartId: 24449; Supplier 1: Digi-Key; Supplier Part Number 1: 1572-1306-ND; ComponentLink1Description: Datasheet; ComponentLink1URL: http://www.illinoiscapacitor.com/pdf/seriesDocuments/RSS%20series.pdf; ComponentLink2Description: Digi-Key Listing; ComponentLink2URL: https://www.digikey.com/product-detail/en/illinois-capacitor/107RSS035M/1572-1306-ND/5410778; Tolerance: 20%; Voltage: 35V; Price: 0.37; Device Package: Radial, Can, 10mm
footprint CAP AL TH D10 L5 H12.5
pins: 1, 2

## 108CKE025M
designator C?, comment 1000uF  (value not drawn)
CAP ALUM 1000UF 20% 25V RADIAL; Part Number: 108CKE025M; Manufacturer: Illinois Capacitor; TemperatureRange: -40C ~ 105C; Type: Polar; Ripple Current: 820mA; Value: 1000uF; PartId: 25359; Supplier 1: Digi-Key; Supplier Part Number 1: 1572-1054-ND; ComponentLink1Description: Datasheet; ComponentLink1URL: http://www.illinoiscapacitor.com/pdf/seriesDocuments/CKH_CKE%20series.pdf; ComponentLink2Description: Digi-Key Listing; ComponentLink2URL: https://www.digikey.com/product-detail/en/illinois-capacitor/108CKE025M/1572-1054-ND/5343984; Tolerance: 20%; Voltage: 25V; Price: 0.7; Device Package: Radial, Can, 10mm
footprint CAP AL TH D10 L5 H17.5
pins: 1, 2

## 108CKE063M
designator C?, comment 1000uF  (value not drawn)
CAP ALUM 1000UF 20% 63V RADIAL; Part Number: 108CKE063M; Manufacturer: Illinois Capacitor; TemperatureRange: -40C ~ 105C; Type: Polar; Ripple Current: 1.45A; Value: 1000uF; PartId: 26613; Supplier 1: Digi-Key; Supplier Part Number 1: 1572-1055-ND; ComponentLink1Description: Datasheet; ComponentLink1URL: http://www.illinoiscapacitor.com/pdf/seriesDocuments/CKH_CKE%20series.pdf; ComponentLink2Description: Digi-Key Listing; ComponentLink2URL: https://www.digikey.com/product-detail/en/illinois-capacitor/108CKE063M/1572-1055-ND/5343985; Tolerance: 20%; Voltage: 63V; Price: 1.39; Device Package: Radial, Can, 16mm
footprint CAP AL TH D16 L7.5 H26.5
pins: 1, 2

## 108CKH035M
designator C?, comment 1000uF  (value not drawn)
RADIAL 105C LYTIC; Part Number: 108CKH035M; Manufacturer: Illinois Capacitor; TemperatureRange: -40C ~ 105C; Tolerance: 20%; Voltage: 35V; Type: Polar; Ripple Current: 1.025A; Value: 1000uF; PartId: 22985; Supplier 1: Digi-Key; Supplier Part Number 1: 1572-1056-ND; ComponentLink1Description: Datasheet; ComponentLink1URL: http://www.illinoiscapacitor.com/pdf/seriesDocuments/CKH_CKE%20series.pdf; ComponentLink2Description: Digi-Key Listing; ComponentLink2URL: https://www.digikey.com/product-detail/en/illinois-capacitor/108CKH035M/1572-1056-ND/5343986; Price: 0; Device Package: Radial, Can, 12.5mm
footprint CAP AL TH D12.5 L5 H21.5
pins: 1, 2

## 108CKH050M
designator C?, comment 1000uF  (value not drawn)
RADIAL 105C LYTIC; Part Number: 108CKH050M; Manufacturer: Illinois Capacitor; TemperatureRange: -40C ~ 105C; Tolerance: 20%; Voltage: 50V; Type: Polar; Ripple Current: 1.01A; Value: 1000uF; PartId: 26539; Supplier 1: Digi-Key; Supplier Part Number 1: 1572-1057-ND; ComponentLink1Description: Datasheet; ComponentLink1URL: http://www.illinoiscapacitor.com/pdf/seriesDocuments/CKH_CKE%20series.pdf; ComponentLink2Description: Digi-Key Listing; ComponentLink2URL: https://www.digikey.com/product-detail/en/illinois-capacitor/108CKH050M/1572-1057-ND/5343987; Price: 0.98; Device Package: Radial, Can, 16mm
footprint CAP AL TH D16 L7.5 H26.5
pins: 1, 2

## 108CKR050M
designator C?, comment 1000uF  (value not drawn)
RADIAL 85C LYTIC; Part Number: 108CKR050M; Manufacturer: Illinois Capacitor; TemperatureRange: -40C ~ 85C; Tolerance: 20%; Voltage: 50V; Type: Polar; Ripple Current: 1.51A; Value: 1000uF; PartId: 26563; Supplier 1: Digi-Key; Supplier Part Number 1: 1572-1058-ND; ComponentLink1Description: Datasheet; ComponentLink1URL: http://www.illinoiscapacitor.com/pdf/seriesDocuments/CKR_CKS%20series.pdf; ComponentLink2Description: Digi-Key Listing; ComponentLink2URL: https://www.digikey.com/product-detail/en/illinois-capacitor/108CKR050M/1572-1058-ND/5343988; Price: 1.11; Device Package: Radial, Can, 16mm
footprint CAP AL TH D16 L7.5 H26.5
pins: 1, 2

## 108CKS025M
designator C?, comment 1000uF  (value not drawn)
RADIAL 85C LYTIC; Part Number: 108CKS025M; Manufacturer: Illinois Capacitor; TemperatureRange: -40C ~ 85C; Tolerance: 20%; Voltage: 25V; Type: Polar; Ripple Current: 1.095A; Value: 1000uF; PartId: 25617; Supplier 1: Digi-Key; Supplier Part Number 1: 1572-1059-ND; ComponentLink1Description: Datasheet; ComponentLink1URL: http://www.illinoiscapacitor.com/pdf/seriesDocuments/CKR_CKS%20series.pdf; ComponentLink2Description: Digi-Key Listing; ComponentLink2URL: https://www.digikey.com/product-detail/en/illinois-capacitor/108CKS025M/1572-1059-ND/5343989; Price: 0.7; Device Package: Radial, Can, 10mm
footprint CAP AL TH D10 L5 H22
pins: 1, 2

## 108CKS035M
designator C?, comment 1000uF  (value not drawn)
CAP ALUM 1000UF 20% 35V T/H; Part Number: 108CKS035M; Manufacturer: Illinois Capacitor; TemperatureRange: -40C ~ 85C; Type: Polar; Ripple Current: 1.41A @ 120Hz; Value: 1000uF; PartId: 22951; Supplier 1: Digi-Key; Supplier Part Number 1: 1572-1312-ND; ComponentLink1Description: Datasheet; ComponentLink1URL: http://www.illinoiscapacitor.com/pdf/seriesDocuments/CKR_CKS%20series.pdf; ComponentLink2Description: Digi-Key Listing; ComponentLink2URL: https://www.digikey.com/product-detail/en/illinois-capacitor/108CKS035M/1572-1312-ND/5410858; Tolerance: 20%; Voltage: 35V; Price: 0; Device Package: Radial, Can, 12.5mm
footprint CAP AL TH D12.5 L5 H21.5
pins: 1, 2

## 108CKS050M
designator C?, comment 1000uF  (value not drawn)
RADIAL 85C LYTIC; Part Number: 108CKS050M; Manufacturer: Illinois Capacitor; TemperatureRange: -40C ~ 85C; Tolerance: 20%; Voltage: 50V; Type: Polar; Ripple Current: 1.715A; Value: 1000uF; PartId: 23684; Supplier 1: Digi-Key; Supplier Part Number 1: 1572-1060-ND; ComponentLink1Description: Datasheet; ComponentLink1URL: http://www.illinoiscapacitor.com/pdf/seriesDocuments/CKR_CKS%20series.pdf; ComponentLink2Description: Digi-Key Listing; ComponentLink2URL: https://www.digikey.com/product-detail/en/illinois-capacitor/108CKS050M/1572-1060-ND/5343990; Price: 1.03; Device Package: Radial, Can, 12.5mm
footprint CAP AL TH D12.5 L5 H26.5
pins: 1, 2

## 108KXM025M
designator C?, comment 1000uF  (value not drawn)
CAP ALUM 1000UF 20% 25V T/H; Part Number: 108KXM025M; Manufacturer: Illinois Capacitor; TemperatureRange: -55C ~ 105C; Type: Polar; Ripple Current: 1.416A @ 120Hz; Impedance: 53 mOhm; Value: 1000uF; PartId: 23297; Supplier 1: Digi-Key; Supplier Part Number 1: 1572-1315-ND; ComponentLink1Description: Datasheet; ComponentLink1URL: http://www.illinoiscapacitor.com/pdf/seriesDocuments/KXM%20series.pdf; ComponentLink2Description: Digi-Key Listing; ComponentLink2URL: https://www.digikey.com/product-detail/en/illinois-capacitor/108KXM025M/1572-1315-ND/5410866; Tolerance: 20%; Voltage: 25V; Price: 0.8; Device Package: Radial, Can, 12.5mm
footprint CAP AL TH D12.5 L5 H22
pins: 1, 2

## 108KXM035M
designator C?, comment 1000uF  (value not drawn)
CAP ALUM 1000UF 20% 35V T/H; Part Number: 108KXM035M; Manufacturer: Illinois Capacitor; TemperatureRange: -55C ~ 105C; Type: Polar; Ripple Current: 1.662A @ 120Hz; Impedance: 45 mOhm; Value: 1000uF; PartId: 23928; Supplier 1: Digi-Key; Supplier Part Number 1: 1572-1316-ND; ComponentLink1Description: Datasheet; ComponentLink1URL: http://www.illinoiscapacitor.com/pdf/seriesDocuments/KXM%20series.pdf; ComponentLink2Description: Digi-Key Listing; ComponentLink2URL: https://www.digikey.com/product-detail/en/illinois-capacitor/108KXM035M/1572-1316-ND/5410867; Tolerance: 20%; Voltage: 35V; Price: 0.96; Device Package: Radial, Can, 12.5mm
footprint CAP AL TH D12.5 L5 H27
pins: 1, 2